# EAGLE library part 634106149621 (library EAGLE-INPUT_OUTPUT_CONNECTORS-rev17c)
WR-MJ_Modular Jack_Top Entry_6P6C 6P6C Top Entry with Solder Tab_T&R with Mylar <http://katalog.we-online.de/media/images/eican/Con_WR-MJ_Vertical_Plastic_634106149621_pf2.jpg> Details see: http://katalog.we-online.de/en/em/MJ_SMT_VERTICAL_PLASTIC_6P6C_TOP_ENTRY/634106149621 Created 2014-10-18, aslant tao 2014 (C) Würth Elektronik
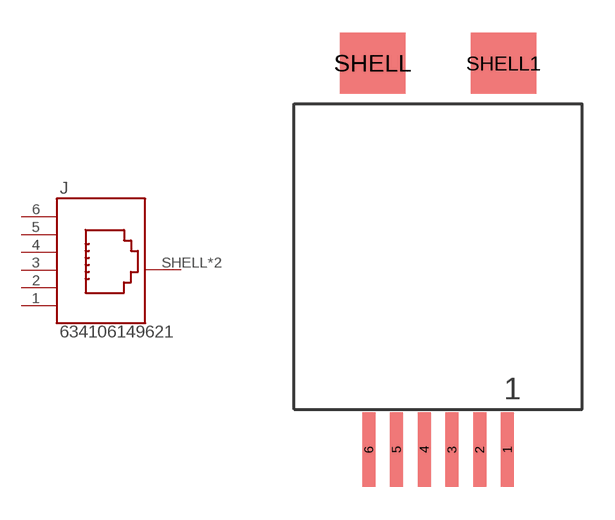
[diagram p162: symbol with the pads of 634106149621; footprint 634106149621]

Designator prefix J

## 634106149621  [634106149621]
1  1  pas
2  2  pas
3  3  pas
4  4  pas
5  5  pas
6  6  pas
SHELL  SHIELD  pas
SHELL1  SHIELD  pas

## Footprint 634106149621 (pad centres in mm)
WR-MJ_Modular Jack_Top Entry_6P6C 6P6C Top Entry with Solder Tab_T&R with Mylar
smd 0.6 x 3.4: 1 3.175,-17.7; 2 1.905,-17.7; 3 0.635,-17.7; 4 -0.635,-17.7; 5 -1.905,-17.7; 6 -3.175,-17.7
smd 3 x 2.8: SHELL -3,0; SHELL1 3,0